# EAGLE library part MMDT2227 (library 000001)
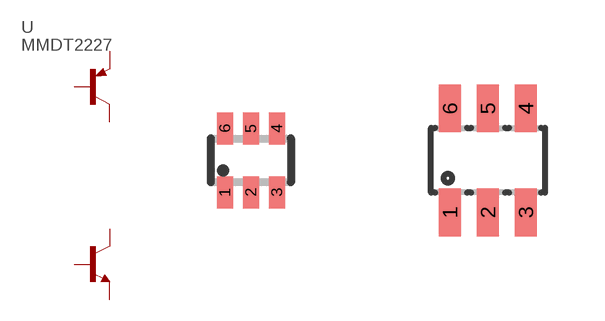
[diagram p89: symbol with the pads of SOT363; footprints SOT363, SOT23-6L]

Designator prefix -

## MMDT2227  [SOT363]
1  E_NPN  pas
2  B_NPN  pas
3  C_PNP  pas
4  E_PNP  pas
5  B_PNP  pas
6  C_NPN  pas

## MMDT2227A  [SOT23-6L]
1  C_NPN  pas
2  B_NPN  pas
3  C_PNP  pas
4  E_PNP  pas
5  B_PNP  pas
6  E_NPN  pas

## Footprint SOT363 (pad centres in mm)
smd 0.4 x 0.8: 1 -0.65,-0.8; 2 0,-0.8; 3 0.65,-0.8; 4 0.65,0.8; 5 0,0.8; 6 -0.65,0.8

## Footprint SOT23-6L (pad centres in mm)
Small Outline Transistor
smd 0.55 x 1.2: 1 -0.95,-1.3; 2 0,-1.3; 3 0.95,-1.3; 4 0.95,1.3; 5 0,1.3; 6 -0.95,1.3